# EAGLE library part 614008235023 (library USB_Wuerth_Elektronik_eiCan_Communication_Connectors_STENCIL)
WR-COM Vertical Dual USB Type A
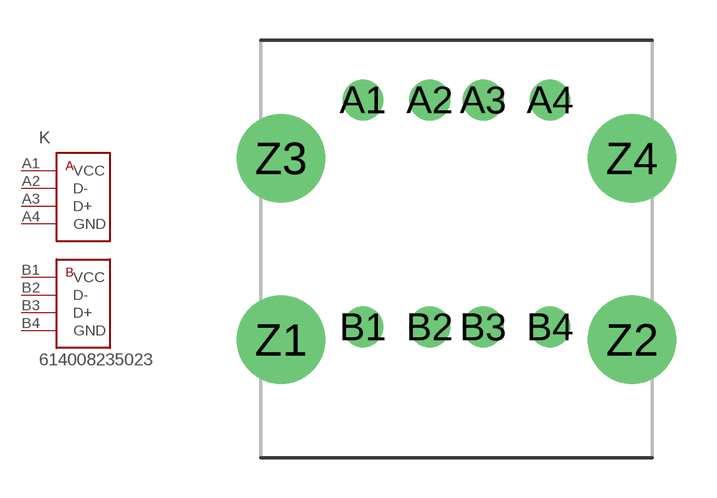
[diagram p16: symbol with the pads of 614008235023; footprint 614008235023]

Designator prefix K

## 614008235023  [614008235023]
A1  VCC
A2  D-
A3  D+
A4  GND
B1  VCC
B2  D-
B3  D+
B4  GND

## Footprint 614008235023 (pad centres in mm)
WR-COM Vertical Dual USB Type A
drill 1.02: A1 -3.5,8.98; A2 -1,8.98; A3 1,8.98; A4 3.5,8.98; B1 -3.5,0.48; B2 -1,0.48; B3 1,0.48; B4 3.5,0.48
drill 2.3: Z1 -6.57,0; Z2 6.57,0; Z3 -6.565,6.8; Z4 6.565,6.8